# Altium footprint library LEDs.PcbLib: 1 footprints
Each footprint in its own frame and in the unit in brackets; x right, y up, seen from the top. Pads: shape width x height; smd on the part's side, far side on the other; paste and mask are expansions set on the pad; w line width, h text height; cw(c..) or ccw(c..) is an arc to the next point about the centre after c.
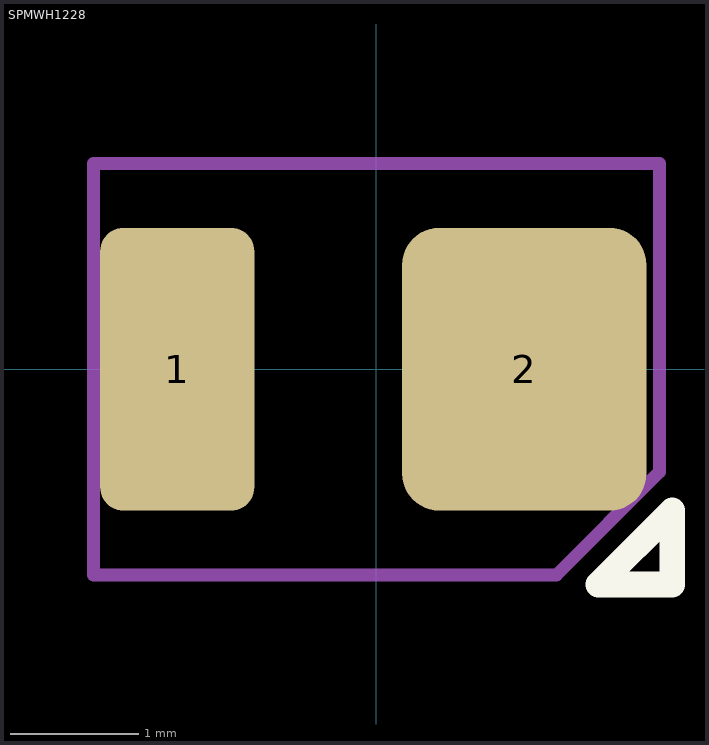
[diagram p0: the footprint, top view; thin cyan lines are the x and y axes]

## SPMWH1228 [mm]
pads (2):
  rrect30% 1.2x2.2 smd paste-0.05 mask+0.02: 1(-1.55,0)
  rrect30% 1.9x2.2 smd paste-0.05 mask+0.02: 2(1.15,0)
Top Overlay:
  lines w0.2: 1.725,-1.675 2.3,-1.675 2.3,-1.1 1.725,-1.675
Assembly:
  lines w0.1: -2.2,-1.6 1.4,-1.6 2.2,-0.8 2.2,1.6 -2.2,1.6 -2.2,-1.6
  text ".Designator" at -2.025,-0.3 h1.1
3D body: height 0.65, standoff 0, extent -1.75,-1.4 1.75,1.4